# Altium footprint library HV9006_MEASUREBOARD.PCBLIB: 292 footprints (part 1 of 19)
Each footprint in its own frame and in the unit in brackets; x right, y up, seen from the top. Pads: shape width x height; smd on the part's side, far side on the other; paste and mask are expansions set on the pad; w line width, h text height; cw(c..) or ccw(c..) is an arc to the next point about the centre after c.
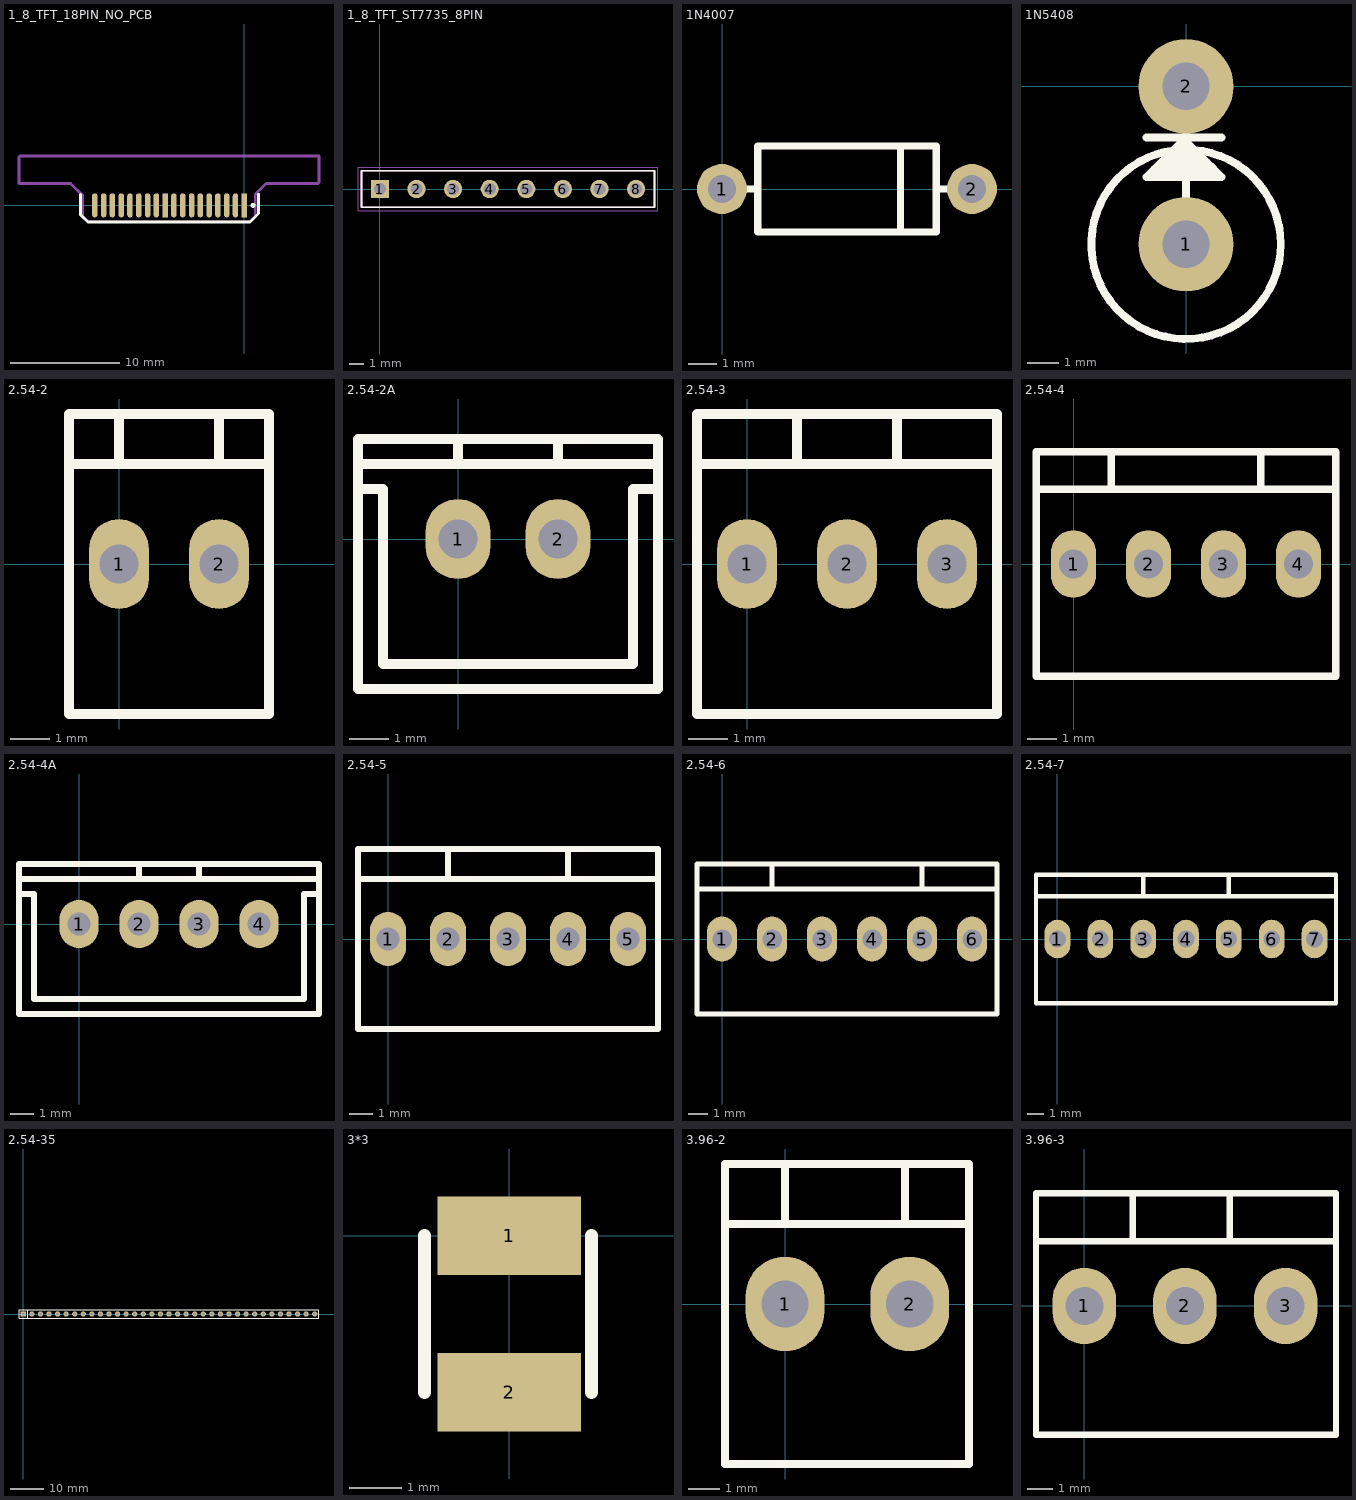
[diagram p0: the footprints below, top view; thin cyan lines are the x and y axes]

## 1_8_TFT_18PIN_NO_PCB [mm]
pads (18):
  rect 0.5x2.2 smd: 1(0,0) 10(-7.2,0)
  oval 0.5x2.2 smd: 2(-0.8,0) 3(-1.6,0) 4(-2.4,0) 5(-3.2,0) 6(-4,0) 7(-4.8,0) 8(-5.6,0) 9(-6.4,0) 11(-8,0) 12(-8.8,0) 13(-9.6,0) 14(-10.4,0) 15(-11.2,0) 16(-12,0) 17(-12.8,0) 18(-13.6,0)
Top Overlay:
  circle w0.254: c0.8,0 r0.1
  lines w0.254: -14.9,-0.307 -14.9,1 -14.9,-0.848 -14.846,-0.902 -14.224,-1.524 0.508,-1.524 1.3,-0.732 1.3,1.016
Mechanical 15:
  lines w0.254: -20.5,2 -20.5,4.4 -20.4,4.5 6.8,4.5 6.8,2.1 6.7,2 2,2 1.75,1.75 1.25,1.25 1,1 1,-1 0.5,-1.5 -14.2,-1.5 -14.7,-1 -14.7,0.9 -15.8,2 -20.5,2

## 1_8_TFT_ST7735_8PIN [mm] "Header, Vertical, 2.54 mm pitch; 0.64 mm lead width, 8 pins, 1 row, 8 pins per row, 20.32 mm L X 2.54 mm W X 10.00 mm H body"
height 10
pads (8):
  rect 1.26x1.26 hole 0.84 paste-1.26: 1(0,0)
  round 1.26 hole 0.84 paste-1.26: 2(2.54,0) 3(5.08,0) 4(7.62,0) 5(10.16,0) 6(12.7,0) 7(15.24,0) 8(17.78,0)
Top Overlay:
  lines w0.12: -1.27,-1.27 -1.27,1.27 19.05,1.27 19.05,-1.27 -1.27,-1.27
Mechanical 11:
  lines w0.12: -1.27,-1.27 -1.27,1.27 19.05,1.27 19.05,-1.27 -1.27,-1.27
Mechanical 12:
  circle w0.025: c0,0 r0.32
  circle w0.025: c2.54,0 r0.32
  circle w0.025: c5.08,0 r0.32
  circle w0.025: c7.62,0 r0.32
  circle w0.025: c10.16,0 r0.32
  circle w0.025: c12.7,0 r0.32
  circle w0.025: c15.24,0 r0.32
  circle w0.025: c17.78,0 r0.32
  lines w0.025: -1.27,-1.27 -1.27,1.27 19.05,1.27 19.05,-1.27 -1.27,-1.27
Mechanical 15:
  circle w0.05: c0,0 r0.25
  lines w0.05: -0.35,0 0.35,0 ; 0,-0.35 0,0.35 ; -1.52,-1.52 -1.52,1.52 19.3,1.52 19.3,-1.52 -1.52,-1.52
Mechanical 16:
  text ".Designator" at 0,0 h1.2
3D body: height 0, standoff -9, extent 17.53,-0.275 18.08,0.3
3D body: height 0, standoff -9, extent 14.99,-0.275 15.54,0.3
3D body: height 0, standoff -9, extent 12.45,-0.275 13,0.3
3D body: height 0, standoff -9, extent 9.91,-0.275 10.46,0.3
3D body: height 0, standoff -9, extent 7.37,-0.275 7.92,0.3
3D body: height 0, standoff -9, extent 4.83,-0.275 5.38,0.3
3D body: height 0, standoff -9, extent 2.29,-0.275 2.84,0.3
3D body: height 0, standoff -9, extent -0.25,-0.275 0.3,0.3
3D body "Small Screen Assembly.SLDPRT": height -6.72, standoff -12.54, extent -9.026,-53.309 25.226,2.825

## 1N4007 [mil]
pads (2):
  round 70 hole 39: 1(0,0) 2(350,0)
Top Overlay:
  lines w10: 0,0 50,0 ; 250,-60 250,60 ; 300,0 350,0 ; 50,-60 300,-60 300,60 50,60 50,-60

## 1N5408 [mil]
pads (2):
  round 120 hole 60: 1(0,-200) 2(0,0)
Top Overlay:
  circle w10: c0,-200 r120
  lines w10: -50,-65 45,-65 ; -39.72,-104.72 34.72,-104.72 26.4,-96.4 -30.44,-96.4 -21.01,-86.97 16.97,-86.97 9.61,-79.61 -12.55,-79.61 ; 0,-200 0,0 ; 0,-70 45,-115 -50,-115 0,-65

## 2.54-2 [mil]
pads (2):
  oval 60x90 hole 39: 1(0,0) 2(100,0)
Top Overlay:
  lines w10: 0,100 0,150 ; 100,100 100,150 ; 150,100 -50,100 ; -50,100 -50,-150 150,-150 150,150 -50,150 -50,100

## 2.54-2A [mil]
pads (2):
  oval 65x80 hole 39: 1(0,0) 2(100,0)
Top Overlay:
  lines w10: -100,50 -75,50 -75,-125 175,-125 175,50 200,50 ; -100,75 -75,75 175,75 200,75 ; 0,75 0,100 ; 100,75 100,100 ; -100,-150 -100,100 200,100 200,-150 -100,-150

## 2.54-3 [mil]
pads (3):
  oval 60x90 hole 39: 1(0,0) 2(100,0) 3(200,0)
Top Overlay:
  lines w10: 50,100 50,150 ; 150,100 150,150 ; 250,100 -50,100 ; -50,100 -50,150 250,150 250,-150 -50,-150 -50,100

## 2.54-4 [mil]
pads (4):
  oval 60x90 hole 39: 1(0,0) 2(100,0) 3(200,0) 4(300,0)
Top Overlay:
  lines w10: 50,100 50,150 ; 250,100 250,150 ; 350,100 -50,100 ; -50,100 -50,-150 350,-150 350,150 -50,150 -50,100

## 2.54-4A [mil]
pads (4):
  oval 65x80 hole 39: 1(0,0) 2(100,0) 3(200,0) 4(300,0)
Top Overlay:
  lines w10: -100,50 -75,50 -75,-125 375,-125 375,50 400,50 ; -100,75 -75,75 175,75 400,75 ; 100,75 100,100 ; 200,75 200,100 ; -100,-150 -100,100 400,100 400,-150 -100,-150

## 2.54-5 [mil]
pads (5):
  oval 60x90 hole 39: 1(0,0) 2(100,0) 3(200,0) 4(300,0) 5(400,0)
Top Overlay:
  lines w10: 100,100 100,150 ; 300,100 300,150 ; 450,100 -50,100 ; -50,100 -50,150 450,150 450,-150 -50,-150 -50,100

## 2.54-6 [mil]
pads (6):
  oval 60x90 hole 39: 1(0,0) 2(100,0) 3(200,0) 4(300,0) 5(400,0) 6(500,0)
Top Overlay:
  lines w10: 100,100 100,150 ; 400,100 400,150 ; 550,100 -50,100 ; -50,100 -50,150 550,150 550,-150 -50,-150 -50,100

## 2.54-7 [mil]
pads (7):
  oval 60x90 hole 39: 1(0,0) 2(100,0) 3(200,0) 4(300,0) 5(400,0) 6(500,0) 7(600,0)
Top Overlay:
  lines w10: 200,100 200,150 ; 400,100 400,150 ; -50,100 -50,150 650,150 650,100 ; -50,100 650,100 ; -50,100 -50,-150 650,-150 650,100

## 2.54-35 [mil]
pads (35):
  rect 60x60 hole 35: 1(0,0)
  round 60 hole 35: 2(100,0) 3(200,0) 4(300,0) 5(400,0) 6(500,0) 7(600,0) 8(700,0) 9(800,0) 10(900,0) 11(1000,0) 12(1100,0) 13(1200,0) 14(1300,0) 15(1400,0) 16(1500,0) 17(1600,0) 18(1700,0) 19(1800,0) 20(1900,0) 21(2000,0) 22(2100,0) 23(2200,0) 24(2300,0) 25(2400,0) 26(2500,0) 27(2600,0) 28(2700,0) 29(2800,0) 30(2900,0) 31(3000,0) 32(3100,0) 33(3200,0) 34(3300,0) 35(3400,0)
Top Overlay:
  lines w10: 50,-50 50,50 ; -50,-50 3450,-50 3450,50 -50,50 -50,-50

## 3*3 [mm]
pads (2):
  rect 2.75x1.5 smd: 1(0,0) 2(0,-3)
Top Overlay:
  lines w0.254: -1.626,-3 -1.626,0 ; 1.575,-3 1.575,0

## 3.96-2 [mm]
pads (2):
  oval 2.5x3 hole 1.5: 1(0,0) 2(3.96,0)
Top Overlay:
  lines w0.254: -1.905,2.54 5.842,2.54 ; 0,2.54 0,4.445 ; 3.81,2.54 3.81,4.445 ; -1.905,-5.08 -1.905,2.413 -1.905,4.445 5.842,4.445 5.842,2.413 5.842,-5.08 -1.905,-5.08

## 3.96-3 [mm]
pads (3):
  oval 2.5x3 hole 1.5: 1(0,0) 2(3.96,0) 3(7.92,0)
Top Overlay:
  lines w0.254: -1.905,2.54 9.906,2.54 ; 1.905,2.54 1.905,4.445 ; 5.715,2.54 5.715,4.445 ; -1.905,-5.08 -1.905,2.413 -1.905,4.445 9.906,4.445 9.906,2.413 9.906,-5.08 -1.905,-5.08